# Altium footprint library N-Channel FET.PcbLib: 23 footprints (part 2 of 2)
Each footprint in its own frame and in the unit in brackets; x right, y up, seen from the top. Pads: shape width x height; smd on the part's side, far side on the other; paste and mask are expansions set on the pad; w line width, h text height; cw(c..) or ccw(c..) is an arc to the next point about the centre after c.
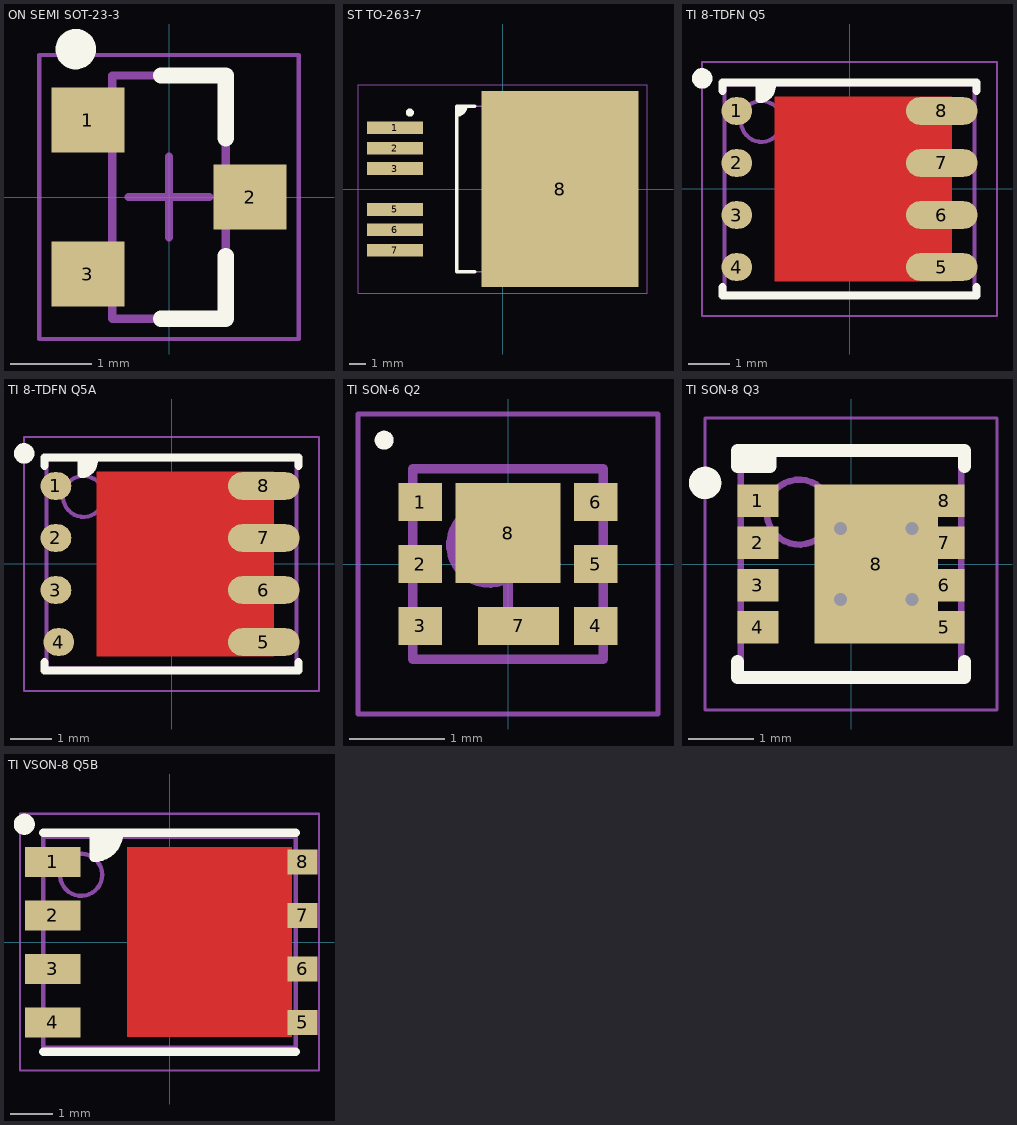
[diagram p1: the footprints below, top view; thin cyan lines are the x and y axes]

## ON SEMI SOT-23-3 [mm] "SOT23, 3-Leads, Body 2.90x2.40mm, Pitch 0.95mm, IPC Medium Density"
height 1.35
pads (3):
  rect 0.9x0.8 smd: 1(-1,0.95) 2(1,0) 3(-1,-0.95)
Top Overlay:
  circle w0.25: c-1.15,1.825 r0.125
  lines w0.2: -0.1,-1.5 0.7,-1.5 0.7,-0.725 ; -0.1,1.5 0.7,1.5 0.7,0.725
Mechanical 13:
  lines w0.1: -0.7,-1.5 -0.7,1.5 0.7,1.5 0.7,-1.5 -0.7,-1.5
Mechanical 15:
  lines w0.05: -1.6,-1.75 -1.6,1.75 1.6,1.75 1.6,-1.75 -1.6,-1.75
  lines w0.1: -0.5,0 0.5,0 ; 0,-0.5 0,0.5
3D body "sot-23-3-infineon.STEP": height 1, standoff 0, extent -1.16,-1.45 1.16,1.45

## ST TO-263-7 [mm] "D2-PAK, 7-Pads, Body 7.82x8.52mm (max), IPC Medium Density"
height 4.57
pads (7):
  rect 3.5x0.8 smd: 1(-6.7,3.81) 2(-6.7,2.54) 3(-6.7,1.27) 5(-6.7,-1.27) 6(-6.7,-2.54) 7(-6.7,-3.81)
  rect 9.75x12.2 smd: 8(3.575,0)
Top Overlay:
  circle w0.25: c-5.775,4.76 r0.125
  region: -2.85,5.15 -2.288,5.15 -2.288,5.041 -2.371,4.838 -2.526,4.684 -2.728,4.6 -2.838,4.6 -2.85,4.6
  lines w0.2: -2.85,4.6 -2.838,4.6 ccw(c-2.838,5.15) -2.288,5.15 ; -1.725,-5.15 -2.85,-5.15 -2.85,5.15 -1.725,5.15
Mechanical 13:
  lines w0.1: -2.85,-5.15 -2.85,5.15 6.6,5.15 6.6,-5.15 -2.85,-5.15
Mechanical 15:
  lines w0.05: -9,-6.5 -9,6.5 9,6.5 9,-6.5 -9,-6.5
  lines w0.1: -0.5,0 0.5,0 ; 0,-0.5 0,0.5
3D body "TO-263-7.STEP": height 4.54, standoff 0, extent -7.62,-5.08 7.63,5.08

## TI 8-TDFN Q5 [mm] "TDFN, 8-Leads, Body 6.00x5.00mm, Pitch 1.27mm, Thermal Pad, IPC Medium Density"
height 1.05
pads (8):
  oval 0.75x0.675 smd: 1(-2.752,1.905) 2(-2.752,0.635) 3(-2.752,-0.635) 4(-2.752,-1.905)
  oval 1.75x0.675 smd: 5(2.253,-1.905) 6(2.253,-0.635) 7(2.253,0.635) 8(2.253,1.905)
Top Layer:
  region: -1.825,2.25 2.5,2.25 2.5,-2.25 -1.825,-2.25
Top Overlay:
  circle w0.25: c-3.6,2.7 r0.125
  region: -2.2,2.6 -2.2,2.2 -2.14,2.2 -2.03,2.246 -1.946,2.33 -1.9,2.44 -1.9,2.5 -1.9,2.6
  lines w0.2: -3.1,-2.4 -3.1,-2.6 3.1,-2.6 3.1,-2.4 ; -3.1,2.4 -3.1,2.6 3.1,2.6 3.1,2.4 ; -2.2,2.6 -2.2,2.2 ccw(c-2.2,2.5) -1.9,2.5 -1.9,2.6
Mechanical 13:
  circle w0.1: c-2.15,1.65 r0.5
  lines w0.1: -3.05,-2.55 3.05,-2.55 3.05,2.55 -3.05,2.55 -3.05,-2.55
Mechanical 15:
  lines w0.05: -3.6,-3.1 3.6,-3.1 3.6,3.1 -3.6,3.1 -3.6,-3.1
  lines w0.1: -0.5,0 0.5,0 ; 0,-0.5 0,0.5
3D body: height 1.05, standoff 0.01, extent -3.05,-2.55 3.05,2.55

## TI 8-TDFN Q5A [mm] "TDFN, 8-Leads, Body 6.00x5.00mm, Pitch 1.27mm, Thermal Pad, IPC Medium Density"
height 1.05
pads (8):
  oval 0.75x0.675 smd paste-1: 1(-2.822,1.905) 2(-2.822,0.635) 3(-2.822,-0.635) 4(-2.752,-1.905)
  oval 1.75x0.675 smd paste-1: 5(2.253,-1.905) 6(2.253,-0.635) 7(2.253,0.635) 8(2.253,1.905)
Top Layer:
  region: -1.825,2.25 2.5,2.25 2.5,-2.25 -1.825,-2.25
Top Overlay:
  circle w0.25: c-3.6,2.7 r0.125
  region: -2.2,2.6 -2.2,2.2 -2.14,2.2 -2.03,2.246 -1.946,2.33 -1.9,2.44 -1.9,2.5 -1.9,2.6
  lines w0.2: -3.1,-2.4 -3.1,-2.6 3.1,-2.6 3.1,-2.4 ; -3.1,2.4 -3.1,2.6 3.1,2.6 3.1,2.4 ; -2.2,2.6 -2.2,2.2 ccw(c-2.2,2.5) -1.9,2.5 -1.9,2.6
Top Paste:
  rectangle: -1.235,0.31 -0.25,1.88
  rectangle: -1.235,-1.88 -0.25,-0.31
  region: 1.835,-0.31 0.25,-0.31 0.25,-1.88 1.835,-1.88
  region: 1.835,1.88 0.25,1.88 0.25,0.31 1.835,0.31
  rectangle: 2.52,0.385 3.02,0.885
  rectangle: 2.52,-0.885 3.02,-0.385
  region: -2.52,-0.385 -3.02,-0.385 -3.02,-0.885 -2.52,-0.885
  region: -2.52,0.885 -3.02,0.885 -3.02,0.385 -2.52,0.385
  rectangle: 2.52,1.655 3.02,2.155
  rectangle: 2.52,-2.155 3.02,-1.655
  region: -2.52,-1.655 -3.02,-1.655 -3.02,-2.155 -2.52,-2.155
  region: -2.52,2.155 -3.02,2.155 -3.02,1.655 -2.52,1.655
Mechanical 13:
  circle w0.1: c-2.15,1.65 r0.5
  lines w0.1: -3.05,-2.55 3.05,-2.55 3.05,2.55 -3.05,2.55 -3.05,-2.55
Mechanical 15:
  lines w0.05: -3.6,-3.1 3.6,-3.1 3.6,3.1 -3.6,3.1 -3.6,-3.1
  lines w0.1: -0.5,0 0.5,0 ; 0,-0.5 0,0.5
3D body: height 1.05, standoff 0.01, extent -3.05,-2.55 3.05,2.55

## TI SON-6 Q2 [mm] "SON, 6-Leads, Body 2.00x2.00mm, Pitch 0.65mm, Thermal Pad 1.10x1.05mm, IPC Medium Density"
height 0.8
pads (8):
  rect 0.455x0.4 smd: 1(-0.923,0.65) 2(-0.923,0) 3(-0.923,-0.65) 4(0.923,-0.65) 5(0.923,0) 6(0.923,0.65)
  rect 0.85x0.4 smd: 7(0.111,-0.65)
  rect 1.1x1.05 smd: 8(0,0.325)
Top Overlay:
  circle w0.1: c-1.3,1.3 r0.05
Mechanical 13:
  circle w0.1: c-0.2,0.2 r0.4
  lines w0.1: -1,-1 1,-1 1,1 -1,1 -1,-1
Mechanical 15:
  lines w0.05: -1.575,-1.575 1.575,-1.575 1.575,1.575 -1.575,1.575 -1.575,-1.575
  lines w0.1: -0.5,0 0.5,0 ; 0,-0.5 0,0.5
3D body: height 0.8, standoff 0.01, extent -1,-1 1,1

## TI SON-8 Q3 [mm] "SON, 8-Leads, Body 3.30x3.30mm, Pitch 0.65mm, Thermal Pad 1.90x2.45mm, IPC Medium Density"
height 1.1
pads (9):
  rect 0.63x0.5 smd paste-3: 1(-1.435,0.975) 2(-1.435,0.325) 3(-1.435,-0.325) 4(-1.435,-0.975) 5(1.435,-0.975) 6(1.435,-0.325) 7(1.435,0.325) 8(1.435,0.975)
  rect 1.9x2.45 smd paste-3: 8(0.39,0)
via 0.94,-0.55 diameter 0.5 hole 0.2
via -0.16,-0.55 diameter 0.5 hole 0.2
via 0.94,0.55 diameter 0.5 hole 0.2
via -0.16,0.55 diameter 0.5 hole 0.2
Top Overlay:
  circle w0.25: c-2.25,1.25 r0.125
  rectangle: -1.75,1.5 -1.25,1.75
  lines w0.2: -1.75,-1.5 -1.75,-1.75 1.75,-1.75 1.75,-1.5 ; -1.25,1.75 -1.25,1.5 -1.75,1.5 -1.75,1.75 1.75,1.75 1.75,1.5
Top Paste:
  rectangle: 1.21,-1.13 1.66,-0.82
  region: -1.21,-0.82 -1.66,-0.82 -1.66,-1.13 -1.21,-1.13
  rectangle: 1.21,0.17 1.66,0.48
  region: -1.21,0.48 -1.66,0.48 -1.66,0.17 -1.21,0.17
  region: -1.21,1.13 -1.66,1.13 -1.66,0.82 -1.21,0.82
  region: -1.21,-0.17 -1.66,-0.17 -1.66,-0.48 -1.21,-0.48
  rectangle: 1.21,-0.48 1.66,-0.17
  rectangle: 1.21,0.82 1.66,1.13
  rectangle: -0.46,-1.27 0.985,-0.125
  rectangle: -0.46,0.125 0.985,1.27
Mechanical 13:
  circle w0.1: c-0.8,0.8 r0.5
  lines w0.1: -1.7,-1.7 1.7,-1.7 1.7,1.7 -1.7,1.7 -1.7,-1.7
Mechanical 15:
  lines w0.05: -2.25,-2.25 2.25,-2.25 2.25,2.25 -2.25,2.25 -2.25,-2.25
  lines w0.1: -0.5,0 0.5,0 ; 0,-0.5 0,0.5
3D body "TI SON-8 Q3.step": height 1.1, standoff 0, extent -1.71,-1.7 1.71,1.7

## TI VSON-8 Q5B [mm] "VSON, 8-Leads, Body 6x5mm, Pitch 1.27mm, Thermal Pad 1.65x2.38mm, IPC Medium Density"
height 1
pads (8):
  rect 1.32x0.71 smd: 1(-2.77,1.905) 2(-2.77,0.635) 3(-2.77,-0.635) 4(-2.77,-1.905)
  rect 0.71x0.59 smd: 5(3.161,-1.905) 6(3.161,-0.635) 7(3.161,0.635) 8(3.161,1.905)
Top Layer:
  region: -1,-2.25 2.9,-2.25 2.9,2.25 -1,2.25
Top Overlay:
  circle w0.25: c-3.45,2.8 r0.125
  region: -1.8,2.6 -1.2,2.6 -1.2,2.481 -1.291,2.26 -1.46,2.091 -1.681,2 -1.8,2
  lines w0.2: -3,-2.6 3,-2.6 ; -3,2.6 3,2.6 ; -1.8,2.6 -1.8,2 ccw(c-1.8,2.6) -1.2,2.6
Top Paste:
  rectangle: -0.647,1.196 0.647,1.941
  rectangle: -0.647,-0.895 0.647,-0.15
  rectangle: 0.997,1.196 2.291,1.941
  rectangle: -0.647,-1.941 0.647,-1.196
  rectangle: 0.997,0.15 2.291,0.895
  rectangle: -0.647,0.15 0.647,0.895
  rectangle: 0.997,-0.895 2.291,-0.15
  rectangle: 0.997,-1.941 2.291,-1.196
Mechanical 13:
  circle w0.1: c-2.1,1.6 r0.5
  lines w0.1: -3,-2.5 3,-2.5 3,2.5 -3,2.5 -3,-2.5
Mechanical 15:
  lines w0.05: -3.55,-3.05 3.55,-3.05 3.55,3.05 -3.55,3.05 -3.55,-3.05
  lines w0.1: -0.5,0 0.5,0 ; 0,-0.5 0,0.5
3D body: height 1, standoff 0.01, extent -3,-2.5 3,2.5